# Altium integrated library Analog Devices Temperature Sensors.IntLib: 271 symbols (part 6 of 14)
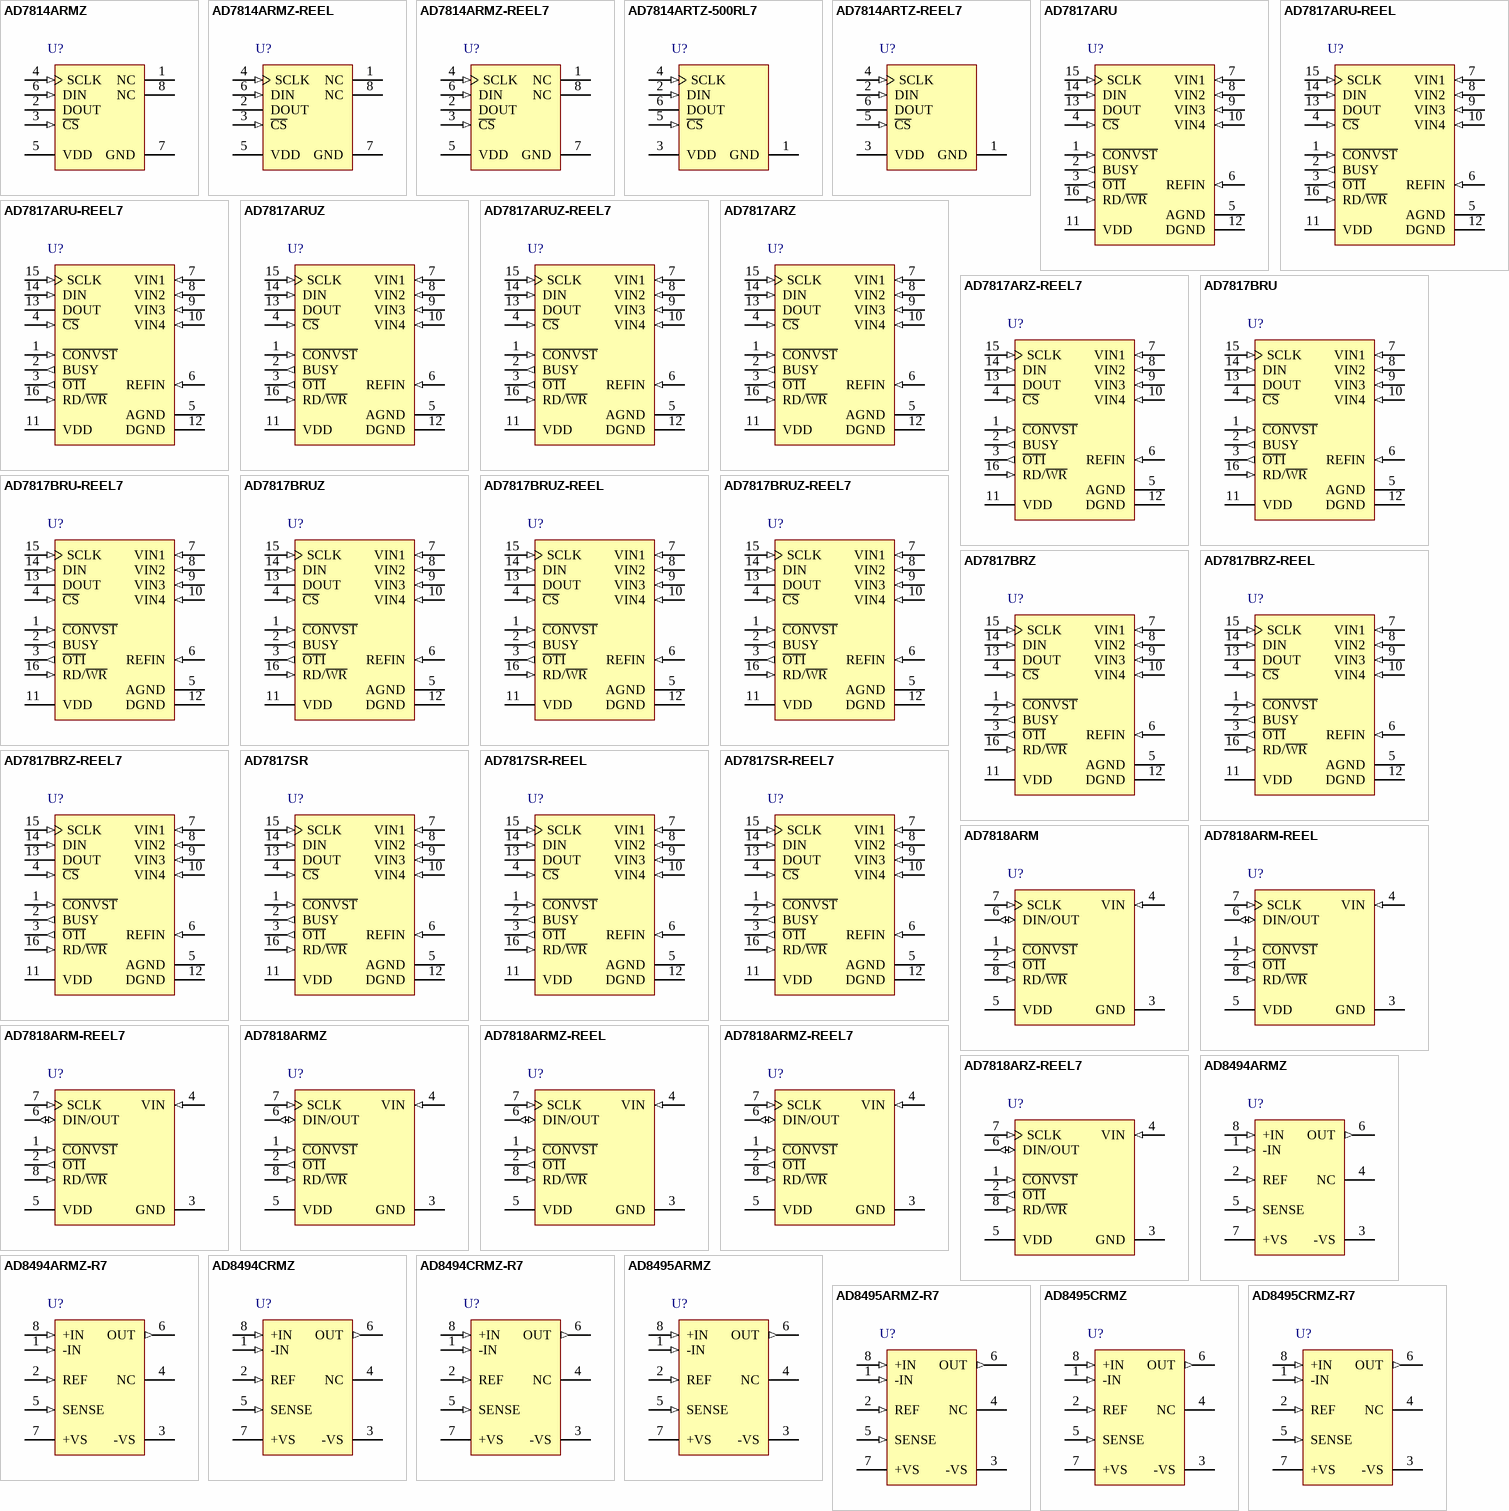
[diagram p12: symbols AD7814ARMZ to AD8495CRMZ-R7]

## AD7817BRU-REEL7
designator U?
Dual, Low Power CMOS, Analog Front End with DSP Microcomputer, 2.7 to 5.5 V Supply, Industrial, 16-pin SOP (RU-16), Reel; Manufacturer: Analog Devices; PartNumber: AD7817BRU-REEL7; #_ADC_channels: 4; DatasheetVersion: Rev. D; PackageVersion: 11/2002; PackageReference: RU-16; PackageDescription: 16-Pin Thin Shrink Small Outline Package, Body 5 x 4.4 mm, Pitch 0.65 mm; Supplier 1: Digi-Key; Supplier Part Number 1: AD7817BRU-REEL7-ND; Supplier 2: Mouser; Supplier Part Number 2: 584-AD7817BRU-R7; Packing: Reel; Supply Voltage Range: 2.7 to 5.5 V; Mounting Technology: Surface Mount; Code_JEDEC: MO-153AB; ComponentLink1Description: Manufacturer URL; ComponentLink1URL: http://www.analog.com/en/index.html; ComponentLink2Description: Datasheet; ComponentLink2URL: http://www.analog.com/static/imported-files/data_sheets/AD7817_7818.pdf; ComponentLink3Description: Package Specification; ComponentLink3URL: http:/www.analog.com/static/imported-files/packages/36244347913743854010197452789RU16.pdf; ComponentLink4Description: Product URL; ComponentLink4URL: http://www.analog.com/en/mems-sensors/digital-temperature-sensors/ad7817/products/product.html
footprint ADI-RU-16_N (SOP, 16-Leads, Body 5x4.4mm, Pitch 0.65mm, IPC Medium Density)
footprint ADI-RU-16_L (SOP, 16-Leads, Body 5x4.4mm, Pitch 0.65mm, IPC High Density)
footprint ADI-RU-16_M (SOP, 16-Leads, Body 5x4.4mm, Pitch 0.65mm, IPC Low Density)
pins: 1 ~{CONVST} (in) "Logic Input Signal. The convert start signal. A 10-bit analog-to-digital conversion is initiated on the falling edge of this signal. The falling edge of this signal places track-and-hold in hold mode. Track-and-hold goes (See Datasheet)", 2 BUSY (out) "Logic Output. The busy signal is logic high during a temperature or voltage A/D conversion. The signal can be used to interrupt a microcontroller when a conversion has finished.", 3 ~{OTI} (out) "Logic Output. The overtemperature indicator (O\T\I\) is set logic low if the result of a conversion on Channel 0 (temperature sensor) is greater that an 8-bit word in the overtemperature register (OTR). The signal is reset (See Datasheet)", 4 ~{CS} (in) "Logic Input Signal. The chip select signal is used to enable the serial port of the AD7817. This is necessary if the AD7817 is sharing the serial bus with more than one device.", 5 AGND (power) "Analog Ground. Ground reference for track-and-hold comparator and capacitor DAC.", 6 REFIN (in) "Analog Input. An external 2.5 V reference can be connected to the AD7817 at this pin. To enable the on-chip reference, tie the REFIN pin to AGND. If an external reference is connected to the AD7817, the internal reference (See Datasheet)", 7 VIN1 (in) "Analog Input Channels. The AD7817 has four analog input channels. The input channels are single-ended with respect to AGND (analog ground). The input channels can convert voltage signals in the range 0 V to VREF. A channel (See Datasheet)", 8 VIN2 (in) "Analog Input Channels. The AD7817 has four analog input channels. The input channels are single-ended with respect to AGND (analog ground). The input channels can convert voltage signals in the range 0 V to VREF. A channel (See Datasheet)", 9 VIN3 (in) "Analog Input Channels. The AD7817 has four analog input channels. The input channels are single-ended with respect to AGND (analog ground). The input channels can convert voltage signals in the range 0 V to VREF. A channel (See Datasheet)", 10 VIN4 (in) "Analog Input Channels. The AD7817 has four analog input channels. The input channels are single-ended with respect to AGND (analog ground). The input channels can convert voltage signals in the range 0 V to VREF. A channel (See Datasheet)", 11 VDD (power) "Positive Supply Voltage, 2.7 V to 5.5 V.", 12 DGND (power) "Digital Ground. Ground reference for digital circuitry.", 13 DOUT (hiz) "Logic Output with a High Impedance State. Data is clocked out of the AD7817 serial port at this pin. This output goes into a high impedance state on the falling edge of RD/W\R\ or on the rising edge of the C\S\ signal, (See Datasheet)", 14 DIN (in) "Logic Input. Data is clocked into the AD7817 at this pin.", 15 SCLK (in) "Clock Input for the Serial Port. The serial clock is used to clock data into and out of the AD7817. Data is clocked out on the falling edge and clocked in on the rising edge.", 16 RD/~{WR} (in) "Logic Input Signal. The read/write signal is used to indicate to the AD7817 whether the data transfer operation is a read or a write. Set the RD/W\R\ logic high for a read operation and logic low for a write operation."

## AD7817BRUZ
designator U?
Dual, Low Power CMOS, Analog Front End with DSP Microcomputer, 2.7 to 5.5 V Supply, Industrial, 16-pin SOP (RU-16), Tube; Manufacturer: Analog Devices; PartNumber: AD7817BRUZ; #_ADC_channels: 4; DatasheetVersion: Rev. D; PackageVersion: 11/2002; PackageReference: RU-16; PackageDescription: 16-Pin Thin Shrink Small Outline Package, Body 5 x 4.4 mm, Pitch 0.65 mm; Supplier 1: Digi-Key; Supplier Part Number 1: AD7817BRUZ-ND; Supplier 2: Newark; Supplier Part Number 2: 59K5550; Supplier 3: Mouser; Supplier Part Number 3: 584-AD7817BRUZ; Packing: Tube; Supply Voltage Range: 2.7 to 5.5 V; Mounting Technology: Surface Mount; Code_JEDEC: MO-153AB; ComponentLink1Description: Manufacturer URL; ComponentLink1URL: http://www.analog.com/en/index.html; ComponentLink2Description: Datasheet; ComponentLink2URL: http://www.analog.com/static/imported-files/data_sheets/AD7817_7818.pdf; ComponentLink3Description: Package Specification; ComponentLink3URL: http:/www.analog.com/static/imported-files/packages/36244347913743854010197452789RU16.pdf; ComponentLink4Description: Product URL; ComponentLink4URL: http://www.analog.com/en/mems-sensors/digital-temperature-sensors/ad7817/products/product.html
footprint ADI-RU-16_N (SOP, 16-Leads, Body 5x4.4mm, Pitch 0.65mm, IPC Medium Density)
footprint ADI-RU-16_L (SOP, 16-Leads, Body 5x4.4mm, Pitch 0.65mm, IPC High Density)
footprint ADI-RU-16_M (SOP, 16-Leads, Body 5x4.4mm, Pitch 0.65mm, IPC Low Density)
pins: 1 ~{CONVST} (in) "Logic Input Signal. The convert start signal. A 10-bit analog-to-digital conversion is initiated on the falling edge of this signal. The falling edge of this signal places track-and-hold in hold mode. Track-and-hold goes (See Datasheet)", 2 BUSY (out) "Logic Output. The busy signal is logic high during a temperature or voltage A/D conversion. The signal can be used to interrupt a microcontroller when a conversion has finished.", 3 ~{OTI} (out) "Logic Output. The overtemperature indicator (O\T\I\) is set logic low if the result of a conversion on Channel 0 (temperature sensor) is greater that an 8-bit word in the overtemperature register (OTR). The signal is reset (See Datasheet)", 4 ~{CS} (in) "Logic Input Signal. The chip select signal is used to enable the serial port of the AD7817. This is necessary if the AD7817 is sharing the serial bus with more than one device.", 5 AGND (power) "Analog Ground. Ground reference for track-and-hold comparator and capacitor DAC.", 6 REFIN (in) "Analog Input. An external 2.5 V reference can be connected to the AD7817 at this pin. To enable the on-chip reference, tie the REFIN pin to AGND. If an external reference is connected to the AD7817, the internal reference (See Datasheet)", 7 VIN1 (in) "Analog Input Channels. The AD7817 has four analog input channels. The input channels are single-ended with respect to AGND (analog ground). The input channels can convert voltage signals in the range 0 V to VREF. A channel (See Datasheet)", 8 VIN2 (in) "Analog Input Channels. The AD7817 has four analog input channels. The input channels are single-ended with respect to AGND (analog ground). The input channels can convert voltage signals in the range 0 V to VREF. A channel (See Datasheet)", 9 VIN3 (in) "Analog Input Channels. The AD7817 has four analog input channels. The input channels are single-ended with respect to AGND (analog ground). The input channels can convert voltage signals in the range 0 V to VREF. A channel (See Datasheet)", 10 VIN4 (in) "Analog Input Channels. The AD7817 has four analog input channels. The input channels are single-ended with respect to AGND (analog ground). The input channels can convert voltage signals in the range 0 V to VREF. A channel (See Datasheet)", 11 VDD (power) "Positive Supply Voltage, 2.7 V to 5.5 V.", 12 DGND (power) "Digital Ground. Ground reference for digital circuitry.", 13 DOUT (hiz) "Logic Output with a High Impedance State. Data is clocked out of the AD7817 serial port at this pin. This output goes into a high impedance state on the falling edge of RD/W\R\ or on the rising edge of the C\S\ signal, (See Datasheet)", 14 DIN (in) "Logic Input. Data is clocked into the AD7817 at this pin.", 15 SCLK (in) "Clock Input for the Serial Port. The serial clock is used to clock data into and out of the AD7817. Data is clocked out on the falling edge and clocked in on the rising edge.", 16 RD/~{WR} (in) "Logic Input Signal. The read/write signal is used to indicate to the AD7817 whether the data transfer operation is a read or a write. Set the RD/W\R\ logic high for a read operation and logic low for a write operation."

## AD7817BRUZ-REEL
designator U?
Dual, Low Power CMOS, Analog Front End with DSP Microcomputer, 2.7 to 5.5 V Supply, Industrial, 16-pin SOP (RU-16), Reel; Manufacturer: Analog Devices; PartNumber: AD7817BRUZ-REEL; #_ADC_channels: 4; DatasheetVersion: Rev. D; PackageVersion: 11/2002; PackageReference: RU-16; PackageDescription: 16-Pin Thin Shrink Small Outline Package, Body 5 x 4.4 mm, Pitch 0.65 mm; Supplier 1: Digi-Key; Supplier Part Number 1: AD7817BRUZ-REEL-ND; Supplier 2: Mouser; Supplier Part Number 2: 584-AD7817BRUZ-R; Packing: Reel; Supply Voltage Range: 2.7 to 5.5 V; Mounting Technology: Surface Mount; Code_JEDEC: MO-153AB; ComponentLink1Description: Manufacturer URL; ComponentLink1URL: http://www.analog.com/en/index.html; ComponentLink2Description: Datasheet; ComponentLink2URL: http://www.analog.com/static/imported-files/data_sheets/AD7817_7818.pdf; ComponentLink3Description: Package Specification; ComponentLink3URL: http:/www.analog.com/static/imported-files/packages/36244347913743854010197452789RU16.pdf; ComponentLink4Description: Product URL; ComponentLink4URL: http://www.analog.com/en/mems-sensors/digital-temperature-sensors/ad7817/products/product.html
footprint ADI-RU-16_N (SOP, 16-Leads, Body 5x4.4mm, Pitch 0.65mm, IPC Medium Density)
footprint ADI-RU-16_L (SOP, 16-Leads, Body 5x4.4mm, Pitch 0.65mm, IPC High Density)
footprint ADI-RU-16_M (SOP, 16-Leads, Body 5x4.4mm, Pitch 0.65mm, IPC Low Density)
pins: 1 ~{CONVST} (in) "Logic Input Signal. The convert start signal. A 10-bit analog-to-digital conversion is initiated on the falling edge of this signal. The falling edge of this signal places track-and-hold in hold mode. Track-and-hold goes (See Datasheet)", 2 BUSY (out) "Logic Output. The busy signal is logic high during a temperature or voltage A/D conversion. The signal can be used to interrupt a microcontroller when a conversion has finished.", 3 ~{OTI} (out) "Logic Output. The overtemperature indicator (O\T\I\) is set logic low if the result of a conversion on Channel 0 (temperature sensor) is greater that an 8-bit word in the overtemperature register (OTR). The signal is reset (See Datasheet)", 4 ~{CS} (in) "Logic Input Signal. The chip select signal is used to enable the serial port of the AD7817. This is necessary if the AD7817 is sharing the serial bus with more than one device.", 5 AGND (power) "Analog Ground. Ground reference for track-and-hold comparator and capacitor DAC.", 6 REFIN (in) "Analog Input. An external 2.5 V reference can be connected to the AD7817 at this pin. To enable the on-chip reference, tie the REFIN pin to AGND. If an external reference is connected to the AD7817, the internal reference (See Datasheet)", 7 VIN1 (in) "Analog Input Channels. The AD7817 has four analog input channels. The input channels are single-ended with respect to AGND (analog ground). The input channels can convert voltage signals in the range 0 V to VREF. A channel (See Datasheet)", 8 VIN2 (in) "Analog Input Channels. The AD7817 has four analog input channels. The input channels are single-ended with respect to AGND (analog ground). The input channels can convert voltage signals in the range 0 V to VREF. A channel (See Datasheet)", 9 VIN3 (in) "Analog Input Channels. The AD7817 has four analog input channels. The input channels are single-ended with respect to AGND (analog ground). The input channels can convert voltage signals in the range 0 V to VREF. A channel (See Datasheet)", 10 VIN4 (in) "Analog Input Channels. The AD7817 has four analog input channels. The input channels are single-ended with respect to AGND (analog ground). The input channels can convert voltage signals in the range 0 V to VREF. A channel (See Datasheet)", 11 VDD (power) "Positive Supply Voltage, 2.7 V to 5.5 V.", 12 DGND (power) "Digital Ground. Ground reference for digital circuitry.", 13 DOUT (hiz) "Logic Output with a High Impedance State. Data is clocked out of the AD7817 serial port at this pin. This output goes into a high impedance state on the falling edge of RD/W\R\ or on the rising edge of the C\S\ signal, (See Datasheet)", 14 DIN (in) "Logic Input. Data is clocked into the AD7817 at this pin.", 15 SCLK (in) "Clock Input for the Serial Port. The serial clock is used to clock data into and out of the AD7817. Data is clocked out on the falling edge and clocked in on the rising edge.", 16 RD/~{WR} (in) "Logic Input Signal. The read/write signal is used to indicate to the AD7817 whether the data transfer operation is a read or a write. Set the RD/W\R\ logic high for a read operation and logic low for a write operation."

## AD7817BRUZ-REEL7
designator U?
Dual, Low Power CMOS, Analog Front End with DSP Microcomputer, 2.7 to 5.5 V Supply, Industrial, 16-pin SOP (RU-16), Reel; Manufacturer: Analog Devices; PartNumber: AD7817BRUZ-REEL7; #_ADC_channels: 4; DatasheetVersion: Rev. D; PackageVersion: 11/2002; PackageReference: RU-16; PackageDescription: 16-Pin Thin Shrink Small Outline Package, Body 5 x 4.4 mm, Pitch 0.65 mm; Supplier 1: Digi-Key; Supplier Part Number 1: AD7817BRUZ-REEL7-ND; Supplier 2: Mouser; Supplier Part Number 2: 584-AD7817BRUZ-R7; Packing: Reel; Supply Voltage Range: 2.7 to 5.5 V; Mounting Technology: Surface Mount; Code_JEDEC: MO-153AB; ComponentLink1Description: Manufacturer URL; ComponentLink1URL: http://www.analog.com/en/index.html; ComponentLink2Description: Datasheet; ComponentLink2URL: http://www.analog.com/static/imported-files/data_sheets/AD7817_7818.pdf; ComponentLink3Description: Package Specification; ComponentLink3URL: http:/www.analog.com/static/imported-files/packages/36244347913743854010197452789RU16.pdf; ComponentLink4Description: Product URL; ComponentLink4URL: http://www.analog.com/en/mems-sensors/digital-temperature-sensors/ad7817/products/product.html
footprint ADI-RU-16_N (SOP, 16-Leads, Body 5x4.4mm, Pitch 0.65mm, IPC Medium Density)
footprint ADI-RU-16_L (SOP, 16-Leads, Body 5x4.4mm, Pitch 0.65mm, IPC High Density)
footprint ADI-RU-16_M (SOP, 16-Leads, Body 5x4.4mm, Pitch 0.65mm, IPC Low Density)
pins: 1 ~{CONVST} (in) "Logic Input Signal. The convert start signal. A 10-bit analog-to-digital conversion is initiated on the falling edge of this signal. The falling edge of this signal places track-and-hold in hold mode. Track-and-hold goes (See Datasheet)", 2 BUSY (out) "Logic Output. The busy signal is logic high during a temperature or voltage A/D conversion. The signal can be used to interrupt a microcontroller when a conversion has finished.", 3 ~{OTI} (out) "Logic Output. The overtemperature indicator (O\T\I\) is set logic low if the result of a conversion on Channel 0 (temperature sensor) is greater that an 8-bit word in the overtemperature register (OTR). The signal is reset (See Datasheet)", 4 ~{CS} (in) "Logic Input Signal. The chip select signal is used to enable the serial port of the AD7817. This is necessary if the AD7817 is sharing the serial bus with more than one device.", 5 AGND (power) "Analog Ground. Ground reference for track-and-hold comparator and capacitor DAC.", 6 REFIN (in) "Analog Input. An external 2.5 V reference can be connected to the AD7817 at this pin. To enable the on-chip reference, tie the REFIN pin to AGND. If an external reference is connected to the AD7817, the internal reference (See Datasheet)", 7 VIN1 (in) "Analog Input Channels. The AD7817 has four analog input channels. The input channels are single-ended with respect to AGND (analog ground). The input channels can convert voltage signals in the range 0 V to VREF. A channel (See Datasheet)", 8 VIN2 (in) "Analog Input Channels. The AD7817 has four analog input channels. The input channels are single-ended with respect to AGND (analog ground). The input channels can convert voltage signals in the range 0 V to VREF. A channel (See Datasheet)", 9 VIN3 (in) "Analog Input Channels. The AD7817 has four analog input channels. The input channels are single-ended with respect to AGND (analog ground). The input channels can convert voltage signals in the range 0 V to VREF. A channel (See Datasheet)", 10 VIN4 (in) "Analog Input Channels. The AD7817 has four analog input channels. The input channels are single-ended with respect to AGND (analog ground). The input channels can convert voltage signals in the range 0 V to VREF. A channel (See Datasheet)", 11 VDD (power) "Positive Supply Voltage, 2.7 V to 5.5 V.", 12 DGND (power) "Digital Ground. Ground reference for digital circuitry.", 13 DOUT (hiz) "Logic Output with a High Impedance State. Data is clocked out of the AD7817 serial port at this pin. This output goes into a high impedance state on the falling edge of RD/W\R\ or on the rising edge of the C\S\ signal, (See Datasheet)", 14 DIN (in) "Logic Input. Data is clocked into the AD7817 at this pin.", 15 SCLK (in) "Clock Input for the Serial Port. The serial clock is used to clock data into and out of the AD7817. Data is clocked out on the falling edge and clocked in on the rising edge.", 16 RD/~{WR} (in) "Logic Input Signal. The read/write signal is used to indicate to the AD7817 whether the data transfer operation is a read or a write. Set the RD/W\R\ logic high for a read operation and logic low for a write operation."

## AD7817BRZ
designator U?
Dual, Low Power CMOS, Analog Front End with DSP Microcomputer, 2.7 to 5.5 V Supply, Industrial, 16-pin SOIC (R-16), Tube; Manufacturer: Analog Devices; PartNumber: AD7817BRZ; #_ADC_channels: 4; DatasheetVersion: Rev. D; PackageVersion: 060606-A, 06/2006; PackageReference: R-16; PackageDescription: 16-Pin Standard Small Outline Package, Body 9.9 x 3.9 mm, Pitch 1.27 mm; Supplier 1: Digi-Key; Supplier Part Number 1: AD7817BRZ-ND; Supplier 2: Newark; Supplier Part Number 2: 59K5553; Supplier 3: Mouser; Supplier Part Number 3: 584-AD7817BRZ; Packing: Tube; Supply Voltage Range: 2.7 to 5.5 V; Mounting Technology: Surface Mount; Code_JEDEC: MS-012-AC; ComponentLink1Description: Manufacturer URL; ComponentLink1URL: http://www.analog.com/en/index.html; ComponentLink2Description: Datasheet; ComponentLink2URL: http://www.analog.com/static/imported-files/data_sheets/AD7817_7818.pdf; ComponentLink3Description: Package Specification; ComponentLink3URL: http://www.analog.com/static/imported-files/packages/PKG_PDF/SOIC_Narrow%20(R)/R_16.pdf; ComponentLink4Description: Product URL; ComponentLink4URL: http://www.analog.com/en/mems-sensors/digital-temperature-sensors/ad7817/products/product.html
footprint ADI-R-16_N (SOIC, 16-Leads, Body 9.9x3.9mm, Pitch 1.27mm, IPC Medium Density)
footprint ADI-R-16_L (SOIC, 16-Leads, Body 9.9x3.9mm, Pitch 1.27mm, IPC High Density)
footprint ADI-R-16_M (SOIC, 16-Leads, Body 9.9x3.9mm, Pitch 1.27mm, IPC Low Density)
pins: 1 ~{CONVST} (in) "Logic Input Signal. The convert start signal. A 10-bit analog-to-digital conversion is initiated on the falling edge of this signal. The falling edge of this signal places track-and-hold in hold mode. Track-and-hold goes (See Datasheet)", 2 BUSY (out) "Logic Output. The busy signal is logic high during a temperature or voltage A/D conversion. The signal can be used to interrupt a microcontroller when a conversion has finished.", 3 ~{OTI} (out) "Logic Output. The overtemperature indicator (O\T\I\) is set logic low if the result of a conversion on Channel 0 (temperature sensor) is greater that an 8-bit word in the overtemperature register (OTR). The signal is reset (See Datasheet)", 4 ~{CS} (in) "Logic Input Signal. The chip select signal is used to enable the serial port of the AD7817. This is necessary if the AD7817 is sharing the serial bus with more than one device.", 5 AGND (power) "Analog Ground. Ground reference for track-and-hold comparator and capacitor DAC.", 6 REFIN (in) "Analog Input. An external 2.5 V reference can be connected to the AD7817 at this pin. To enable the on-chip reference, tie the REFIN pin to AGND. If an external reference is connected to the AD7817, the internal reference (See Datasheet)", 7 VIN1 (in) "Analog Input Channels. The AD7817 has four analog input channels. The input channels are single-ended with respect to AGND (analog ground). The input channels can convert voltage signals in the range 0 V to VREF. A channel (See Datasheet)", 8 VIN2 (in) "Analog Input Channels. The AD7817 has four analog input channels. The input channels are single-ended with respect to AGND (analog ground). The input channels can convert voltage signals in the range 0 V to VREF. A channel (See Datasheet)", 9 VIN3 (in) "Analog Input Channels. The AD7817 has four analog input channels. The input channels are single-ended with respect to AGND (analog ground). The input channels can convert voltage signals in the range 0 V to VREF. A channel (See Datasheet)", 10 VIN4 (in) "Analog Input Channels. The AD7817 has four analog input channels. The input channels are single-ended with respect to AGND (analog ground). The input channels can convert voltage signals in the range 0 V to VREF. A channel (See Datasheet)", 11 VDD (power) "Positive Supply Voltage, 2.7 V to 5.5 V.", 12 DGND (power) "Digital Ground. Ground reference for digital circuitry.", 13 DOUT (hiz) "Logic Output with a High Impedance State. Data is clocked out of the AD7817 serial port at this pin. This output goes into a high impedance state on the falling edge of RD/W\R\ or on the rising edge of the C\S\ signal, (See Datasheet)", 14 DIN (in) "Logic Input. Data is clocked into the AD7817 at this pin.", 15 SCLK (in) "Clock Input for the Serial Port. The serial clock is used to clock data into and out of the AD7817. Data is clocked out on the falling edge and clocked in on the rising edge.", 16 RD/~{WR} (in) "Logic Input Signal. The read/write signal is used to indicate to the AD7817 whether the data transfer operation is a read or a write. Set the RD/W\R\ logic high for a read operation and logic low for a write operation."

## AD7817BRZ-REEL
designator U?
Dual, Low Power CMOS, Analog Front End with DSP Microcomputer, 2.7 to 5.5 V Supply, Industrial, 16-pin SOIC (R-16), Reel; Manufacturer: Analog Devices; PartNumber: AD7817BRZ-REEL; #_ADC_channels: 4; DatasheetVersion: Rev. D; PackageVersion: 060606-A, 06/2006; PackageReference: R-16; PackageDescription: 16-Pin Standard Small Outline Package, Body 9.9 x 3.9 mm, Pitch 1.27 mm; Supplier 1: Digi-Key; Supplier Part Number 1: AD7817BRZ-REEL-ND; Supplier 2: Mouser; Supplier Part Number 2: 584-AD7817BRZ-R; Packing: Reel; Supply Voltage Range: 2.7 to 5.5 V; Mounting Technology: Surface Mount; Code_JEDEC: MS-012-AC; ComponentLink1Description: Manufacturer URL; ComponentLink1URL: http://www.analog.com/en/index.html; ComponentLink2Description: Datasheet; ComponentLink2URL: http://www.analog.com/static/imported-files/data_sheets/AD7817_7818.pdf; ComponentLink3Description: Package Specification; ComponentLink3URL: http://www.analog.com/static/imported-files/packages/PKG_PDF/SOIC_Narrow%20(R)/R_16.pdf; ComponentLink4Description: Product URL; ComponentLink4URL: http://www.analog.com/en/mems-sensors/digital-temperature-sensors/ad7817/products/product.html
footprint ADI-R-16_N (SOIC, 16-Leads, Body 9.9x3.9mm, Pitch 1.27mm, IPC Medium Density)
footprint ADI-R-16_L (SOIC, 16-Leads, Body 9.9x3.9mm, Pitch 1.27mm, IPC High Density)
footprint ADI-R-16_M (SOIC, 16-Leads, Body 9.9x3.9mm, Pitch 1.27mm, IPC Low Density)
pins: 1 ~{CONVST} (in) "Logic Input Signal. The convert start signal. A 10-bit analog-to-digital conversion is initiated on the falling edge of this signal. The falling edge of this signal places track-and-hold in hold mode. Track-and-hold goes (See Datasheet)", 2 BUSY (out) "Logic Output. The busy signal is logic high during a temperature or voltage A/D conversion. The signal can be used to interrupt a microcontroller when a conversion has finished.", 3 ~{OTI} (out) "Logic Output. The overtemperature indicator (O\T\I\) is set logic low if the result of a conversion on Channel 0 (temperature sensor) is greater that an 8-bit word in the overtemperature register (OTR). The signal is reset (See Datasheet)", 4 ~{CS} (in) "Logic Input Signal. The chip select signal is used to enable the serial port of the AD7817. This is necessary if the AD7817 is sharing the serial bus with more than one device.", 5 AGND (power) "Analog Ground. Ground reference for track-and-hold comparator and capacitor DAC.", 6 REFIN (in) "Analog Input. An external 2.5 V reference can be connected to the AD7817 at this pin. To enable the on-chip reference, tie the REFIN pin to AGND. If an external reference is connected to the AD7817, the internal reference (See Datasheet)", 7 VIN1 (in) "Analog Input Channels. The AD7817 has four analog input channels. The input channels are single-ended with respect to AGND (analog ground). The input channels can convert voltage signals in the range 0 V to VREF. A channel (See Datasheet)", 8 VIN2 (in) "Analog Input Channels. The AD7817 has four analog input channels. The input channels are single-ended with respect to AGND (analog ground). The input channels can convert voltage signals in the range 0 V to VREF. A channel (See Datasheet)", 9 VIN3 (in) "Analog Input Channels. The AD7817 has four analog input channels. The input channels are single-ended with respect to AGND (analog ground). The input channels can convert voltage signals in the range 0 V to VREF. A channel (See Datasheet)", 10 VIN4 (in) "Analog Input Channels. The AD7817 has four analog input channels. The input channels are single-ended with respect to AGND (analog ground). The input channels can convert voltage signals in the range 0 V to VREF. A channel (See Datasheet)", 11 VDD (power) "Positive Supply Voltage, 2.7 V to 5.5 V.", 12 DGND (power) "Digital Ground. Ground reference for digital circuitry.", 13 DOUT (hiz) "Logic Output with a High Impedance State. Data is clocked out of the AD7817 serial port at this pin. This output goes into a high impedance state on the falling edge of RD/W\R\ or on the rising edge of the C\S\ signal, (See Datasheet)", 14 DIN (in) "Logic Input. Data is clocked into the AD7817 at this pin.", 15 SCLK (in) "Clock Input for the Serial Port. The serial clock is used to clock data into and out of the AD7817. Data is clocked out on the falling edge and clocked in on the rising edge.", 16 RD/~{WR} (in) "Logic Input Signal. The read/write signal is used to indicate to the AD7817 whether the data transfer operation is a read or a write. Set the RD/W\R\ logic high for a read operation and logic low for a write operation."

## AD7817BRZ-REEL7
designator U?
Dual, Low Power CMOS, Analog Front End with DSP Microcomputer, 2.7 to 5.5 V Supply, Industrial, 16-pin SOIC (R-16), Reel; Manufacturer: Analog Devices; PartNumber: AD7817BRZ-REEL7; #_ADC_channels: 4; DatasheetVersion: Rev. D; PackageVersion: 060606-A, 06/2006; PackageReference: R-16; PackageDescription: 16-Pin Standard Small Outline Package, Body 9.9 x 3.9 mm, Pitch 1.27 mm; Supplier 1: Digi-Key; Supplier Part Number 1: AD7817BRZ-REEL7-ND; Supplier 2: Mouser; Supplier Part Number 2: 584-AD7817BRZ-R7; Packing: Reel; Supply Voltage Range: 2.7 to 5.5 V; Mounting Technology: Surface Mount; Code_JEDEC: MS-012-AC; ComponentLink1Description: Manufacturer URL; ComponentLink1URL: http://www.analog.com/en/index.html; ComponentLink2Description: Datasheet; ComponentLink2URL: http://www.analog.com/static/imported-files/data_sheets/AD7817_7818.pdf; ComponentLink3Description: Package Specification; ComponentLink3URL: http://www.analog.com/static/imported-files/packages/PKG_PDF/SOIC_Narrow%20(R)/R_16.pdf; ComponentLink4Description: Product URL; ComponentLink4URL: http://www.analog.com/en/mems-sensors/digital-temperature-sensors/ad7817/products/product.html
footprint ADI-R-16_N (SOIC, 16-Leads, Body 9.9x3.9mm, Pitch 1.27mm, IPC Medium Density)
footprint ADI-R-16_L (SOIC, 16-Leads, Body 9.9x3.9mm, Pitch 1.27mm, IPC High Density)
footprint ADI-R-16_M (SOIC, 16-Leads, Body 9.9x3.9mm, Pitch 1.27mm, IPC Low Density)
pins: 1 ~{CONVST} (in) "Logic Input Signal. The convert start signal. A 10-bit analog-to-digital conversion is initiated on the falling edge of this signal. The falling edge of this signal places track-and-hold in hold mode. Track-and-hold goes (See Datasheet)", 2 BUSY (out) "Logic Output. The busy signal is logic high during a temperature or voltage A/D conversion. The signal can be used to interrupt a microcontroller when a conversion has finished.", 3 ~{OTI} (out) "Logic Output. The overtemperature indicator (O\T\I\) is set logic low if the result of a conversion on Channel 0 (temperature sensor) is greater that an 8-bit word in the overtemperature register (OTR). The signal is reset (See Datasheet)", 4 ~{CS} (in) "Logic Input Signal. The chip select signal is used to enable the serial port of the AD7817. This is necessary if the AD7817 is sharing the serial bus with more than one device.", 5 AGND (power) "Analog Ground. Ground reference for track-and-hold comparator and capacitor DAC.", 6 REFIN (in) "Analog Input. An external 2.5 V reference can be connected to the AD7817 at this pin. To enable the on-chip reference, tie the REFIN pin to AGND. If an external reference is connected to the AD7817, the internal reference (See Datasheet)", 7 VIN1 (in) "Analog Input Channels. The AD7817 has four analog input channels. The input channels are single-ended with respect to AGND (analog ground). The input channels can convert voltage signals in the range 0 V to VREF. A channel (See Datasheet)", 8 VIN2 (in) "Analog Input Channels. The AD7817 has four analog input channels. The input channels are single-ended with respect to AGND (analog ground). The input channels can convert voltage signals in the range 0 V to VREF. A channel (See Datasheet)", 9 VIN3 (in) "Analog Input Channels. The AD7817 has four analog input channels. The input channels are single-ended with respect to AGND (analog ground). The input channels can convert voltage signals in the range 0 V to VREF. A channel (See Datasheet)", 10 VIN4 (in) "Analog Input Channels. The AD7817 has four analog input channels. The input channels are single-ended with respect to AGND (analog ground). The input channels can convert voltage signals in the range 0 V to VREF. A channel (See Datasheet)", 11 VDD (power) "Positive Supply Voltage, 2.7 V to 5.5 V.", 12 DGND (power) "Digital Ground. Ground reference for digital circuitry.", 13 DOUT (hiz) "Logic Output with a High Impedance State. Data is clocked out of the AD7817 serial port at this pin. This output goes into a high impedance state on the falling edge of RD/W\R\ or on the rising edge of the C\S\ signal, (See Datasheet)", 14 DIN (in) "Logic Input. Data is clocked into the AD7817 at this pin.", 15 SCLK (in) "Clock Input for the Serial Port. The serial clock is used to clock data into and out of the AD7817. Data is clocked out on the falling edge and clocked in on the rising edge.", 16 RD/~{WR} (in) "Logic Input Signal. The read/write signal is used to indicate to the AD7817 whether the data transfer operation is a read or a write. Set the RD/W\R\ logic high for a read operation and logic low for a write operation."

## AD7817SR
designator U?
Dual, Low Power CMOS, Analog Front End with DSP Microcomputer, 2.7 to 5.5 V Supply, Industrial, 16-pin SOIC (R-16), Tube; Manufacturer: Analog Devices; PartNumber: AD7817SR; #_ADC_channels: 4; DatasheetVersion: Rev. D; PackageVersion: 060606-A, 06/2006; PackageReference: R-16; PackageDescription: 16-Pin Standard Small Outline Package, Body 9.9 x 3.9 mm, Pitch 1.27 mm; Supplier 1: Digi-Key; Supplier Part Number 1: AD7817SR-ND; Supplier 2: Newark; Supplier Part Number 2: 98B7307; Supplier 3: Mouser; Supplier Part Number 3: 584-AD7817SR; Packing: Tube; Supply Voltage Range: 2.7 to 5.5 V; Mounting Technology: Surface Mount; Code_JEDEC: MS-012-AC; ComponentLink1Description: Manufacturer URL; ComponentLink1URL: http://www.analog.com/en/index.html; ComponentLink2Description: Datasheet; ComponentLink2URL: http://www.analog.com/static/imported-files/data_sheets/AD7817_7818.pdf; ComponentLink3Description: Package Specification; ComponentLink3URL: http://www.analog.com/static/imported-files/packages/PKG_PDF/SOIC_Narrow%20(R)/R_16.pdf; ComponentLink4Description: Product URL; ComponentLink4URL: http://www.analog.com/en/mems-sensors/digital-temperature-sensors/ad7817/products/product.html
footprint ADI-R-16_N (SOIC, 16-Leads, Body 9.9x3.9mm, Pitch 1.27mm, IPC Medium Density)
footprint ADI-R-16_L (SOIC, 16-Leads, Body 9.9x3.9mm, Pitch 1.27mm, IPC High Density)
footprint ADI-R-16_M (SOIC, 16-Leads, Body 9.9x3.9mm, Pitch 1.27mm, IPC Low Density)
pins: 1 ~{CONVST} (in) "Logic Input Signal. The convert start signal. A 10-bit analog-to-digital conversion is initiated on the falling edge of this signal. The falling edge of this signal places track-and-hold in hold mode. Track-and-hold goes (See Datasheet)", 2 BUSY (out) "Logic Output. The busy signal is logic high during a temperature or voltage A/D conversion. The signal can be used to interrupt a microcontroller when a conversion has finished.", 3 ~{OTI} (out) "Logic Output. The overtemperature indicator (O\T\I\) is set logic low if the result of a conversion on Channel 0 (temperature sensor) is greater that an 8-bit word in the overtemperature register (OTR). The signal is reset (See Datasheet)", 4 ~{CS} (in) "Logic Input Signal. The chip select signal is used to enable the serial port of the AD7817. This is necessary if the AD7817 is sharing the serial bus with more than one device.", 5 AGND (power) "Analog Ground. Ground reference for track-and-hold comparator and capacitor DAC.", 6 REFIN (in) "Analog Input. An external 2.5 V reference can be connected to the AD7817 at this pin. To enable the on-chip reference, tie the REFIN pin to AGND. If an external reference is connected to the AD7817, the internal reference (See Datasheet)", 7 VIN1 (in) "Analog Input Channels. The AD7817 has four analog input channels. The input channels are single-ended with respect to AGND (analog ground). The input channels can convert voltage signals in the range 0 V to VREF. A channel (See Datasheet)", 8 VIN2 (in) "Analog Input Channels. The AD7817 has four analog input channels. The input channels are single-ended with respect to AGND (analog ground). The input channels can convert voltage signals in the range 0 V to VREF. A channel (See Datasheet)", 9 VIN3 (in) "Analog Input Channels. The AD7817 has four analog input channels. The input channels are single-ended with respect to AGND (analog ground). The input channels can convert voltage signals in the range 0 V to VREF. A channel (See Datasheet)", 10 VIN4 (in) "Analog Input Channels. The AD7817 has four analog input channels. The input channels are single-ended with respect to AGND (analog ground). The input channels can convert voltage signals in the range 0 V to VREF. A channel (See Datasheet)", 11 VDD (power) "Positive Supply Voltage, 2.7 V to 5.5 V.", 12 DGND (power) "Digital Ground. Ground reference for digital circuitry.", 13 DOUT (hiz) "Logic Output with a High Impedance State. Data is clocked out of the AD7817 serial port at this pin. This output goes into a high impedance state on the falling edge of RD/W\R\ or on the rising edge of the C\S\ signal, (See Datasheet)", 14 DIN (in) "Logic Input. Data is clocked into the AD7817 at this pin.", 15 SCLK (in) "Clock Input for the Serial Port. The serial clock is used to clock data into and out of the AD7817. Data is clocked out on the falling edge and clocked in on the rising edge.", 16 RD/~{WR} (in) "Logic Input Signal. The read/write signal is used to indicate to the AD7817 whether the data transfer operation is a read or a write. Set the RD/W\R\ logic high for a read operation and logic low for a write operation."

## AD7817SR-REEL
designator U?
Dual, Low Power CMOS, Analog Front End with DSP Microcomputer, 2.7 to 5.5 V Supply, Industrial, 16-pin SOIC (R-16), Reel; Manufacturer: Analog Devices; PartNumber: AD7817SR-REEL; #_ADC_channels: 4; DatasheetVersion: Rev. D; PackageVersion: 060606-A, 06/2006; PackageReference: R-16; PackageDescription: 16-Pin Standard Small Outline Package, Body 9.9 x 3.9 mm, Pitch 1.27 mm; Supplier 1: Digi-Key; Supplier Part Number 1: AD7817SR-REEL-ND; Supplier 2: Mouser; Supplier Part Number 2: 584-AD7817SR-R; Packing: Reel; Supply Voltage Range: 2.7 to 5.5 V; Mounting Technology: Surface Mount; Code_JEDEC: MS-012-AC; ComponentLink1Description: Manufacturer URL; ComponentLink1URL: http://www.analog.com/en/index.html; ComponentLink2Description: Datasheet; ComponentLink2URL: http://www.analog.com/static/imported-files/data_sheets/AD7817_7818.pdf; ComponentLink3Description: Package Specification; ComponentLink3URL: http://www.analog.com/static/imported-files/packages/PKG_PDF/SOIC_Narrow%20(R)/R_16.pdf; ComponentLink4Description: Product URL; ComponentLink4URL: http://www.analog.com/en/mems-sensors/digital-temperature-sensors/ad7817/products/product.html
footprint ADI-R-16_N (SOIC, 16-Leads, Body 9.9x3.9mm, Pitch 1.27mm, IPC Medium Density)
footprint ADI-R-16_L (SOIC, 16-Leads, Body 9.9x3.9mm, Pitch 1.27mm, IPC High Density)
footprint ADI-R-16_M (SOIC, 16-Leads, Body 9.9x3.9mm, Pitch 1.27mm, IPC Low Density)
pins: 1 ~{CONVST} (in) "Logic Input Signal. The convert start signal. A 10-bit analog-to-digital conversion is initiated on the falling edge of this signal. The falling edge of this signal places track-and-hold in hold mode. Track-and-hold goes (See Datasheet)", 2 BUSY (out) "Logic Output. The busy signal is logic high during a temperature or voltage A/D conversion. The signal can be used to interrupt a microcontroller when a conversion has finished.", 3 ~{OTI} (out) "Logic Output. The overtemperature indicator (O\T\I\) is set logic low if the result of a conversion on Channel 0 (temperature sensor) is greater that an 8-bit word in the overtemperature register (OTR). The signal is reset (See Datasheet)", 4 ~{CS} (in) "Logic Input Signal. The chip select signal is used to enable the serial port of the AD7817. This is necessary if the AD7817 is sharing the serial bus with more than one device.", 5 AGND (power) "Analog Ground. Ground reference for track-and-hold comparator and capacitor DAC.", 6 REFIN (in) "Analog Input. An external 2.5 V reference can be connected to the AD7817 at this pin. To enable the on-chip reference, tie the REFIN pin to AGND. If an external reference is connected to the AD7817, the internal reference (See Datasheet)", 7 VIN1 (in) "Analog Input Channels. The AD7817 has four analog input channels. The input channels are single-ended with respect to AGND (analog ground). The input channels can convert voltage signals in the range 0 V to VREF. A channel (See Datasheet)", 8 VIN2 (in) "Analog Input Channels. The AD7817 has four analog input channels. The input channels are single-ended with respect to AGND (analog ground). The input channels can convert voltage signals in the range 0 V to VREF. A channel (See Datasheet)", 9 VIN3 (in) "Analog Input Channels. The AD7817 has four analog input channels. The input channels are single-ended with respect to AGND (analog ground). The input channels can convert voltage signals in the range 0 V to VREF. A channel (See Datasheet)", 10 VIN4 (in) "Analog Input Channels. The AD7817 has four analog input channels. The input channels are single-ended with respect to AGND (analog ground). The input channels can convert voltage signals in the range 0 V to VREF. A channel (See Datasheet)", 11 VDD (power) "Positive Supply Voltage, 2.7 V to 5.5 V.", 12 DGND (power) "Digital Ground. Ground reference for digital circuitry.", 13 DOUT (hiz) "Logic Output with a High Impedance State. Data is clocked out of the AD7817 serial port at this pin. This output goes into a high impedance state on the falling edge of RD/W\R\ or on the rising edge of the C\S\ signal, (See Datasheet)", 14 DIN (in) "Logic Input. Data is clocked into the AD7817 at this pin.", 15 SCLK (in) "Clock Input for the Serial Port. The serial clock is used to clock data into and out of the AD7817. Data is clocked out on the falling edge and clocked in on the rising edge.", 16 RD/~{WR} (in) "Logic Input Signal. The read/write signal is used to indicate to the AD7817 whether the data transfer operation is a read or a write. Set the RD/W\R\ logic high for a read operation and logic low for a write operation."

## AD7817SR-REEL7
designator U?
Dual, Low Power CMOS, Analog Front End with DSP Microcomputer, 2.7 to 5.5 V Supply, Industrial, 16-pin SOIC (R-16), Reel; Manufacturer: Analog Devices; PartNumber: AD7817SR-REEL7; #_ADC_channels: 4; DatasheetVersion: Rev. D; PackageVersion: 060606-A, 06/2006; PackageReference: R-16; PackageDescription: 16-Pin Standard Small Outline Package, Body 9.9 x 3.9 mm, Pitch 1.27 mm; Supplier 1: Digi-Key; Supplier Part Number 1: AD7817SR-REEL7-ND; Supplier 2: Mouser; Supplier Part Number 2: 584-AD7817SR-R7; Packing: Reel; Supply Voltage Range: 2.7 to 5.5 V; Mounting Technology: Surface Mount; Code_JEDEC: MS-012-AC; ComponentLink1Description: Manufacturer URL; ComponentLink1URL: http://www.analog.com/en/index.html; ComponentLink2Description: Datasheet; ComponentLink2URL: http://www.analog.com/static/imported-files/data_sheets/AD7817_7818.pdf; ComponentLink3Description: Package Specification; ComponentLink3URL: http://www.analog.com/static/imported-files/packages/PKG_PDF/SOIC_Narrow%20(R)/R_16.pdf; ComponentLink4Description: Product URL; ComponentLink4URL: http://www.analog.com/en/mems-sensors/digital-temperature-sensors/ad7817/products/product.html
footprint ADI-R-16_N (SOIC, 16-Leads, Body 9.9x3.9mm, Pitch 1.27mm, IPC Medium Density)
footprint ADI-R-16_L (SOIC, 16-Leads, Body 9.9x3.9mm, Pitch 1.27mm, IPC High Density)
footprint ADI-R-16_M (SOIC, 16-Leads, Body 9.9x3.9mm, Pitch 1.27mm, IPC Low Density)
pins: 1 ~{CONVST} (in) "Logic Input Signal. The convert start signal. A 10-bit analog-to-digital conversion is initiated on the falling edge of this signal. The falling edge of this signal places track-and-hold in hold mode. Track-and-hold goes (See Datasheet)", 2 BUSY (out) "Logic Output. The busy signal is logic high during a temperature or voltage A/D conversion. The signal can be used to interrupt a microcontroller when a conversion has finished.", 3 ~{OTI} (out) "Logic Output. The overtemperature indicator (O\T\I\) is set logic low if the result of a conversion on Channel 0 (temperature sensor) is greater that an 8-bit word in the overtemperature register (OTR). The signal is reset (See Datasheet)", 4 ~{CS} (in) "Logic Input Signal. The chip select signal is used to enable the serial port of the AD7817. This is necessary if the AD7817 is sharing the serial bus with more than one device.", 5 AGND (power) "Analog Ground. Ground reference for track-and-hold comparator and capacitor DAC.", 6 REFIN (in) "Analog Input. An external 2.5 V reference can be connected to the AD7817 at this pin. To enable the on-chip reference, tie the REFIN pin to AGND. If an external reference is connected to the AD7817, the internal reference (See Datasheet)", 7 VIN1 (in) "Analog Input Channels. The AD7817 has four analog input channels. The input channels are single-ended with respect to AGND (analog ground). The input channels can convert voltage signals in the range 0 V to VREF. A channel (See Datasheet)", 8 VIN2 (in) "Analog Input Channels. The AD7817 has four analog input channels. The input channels are single-ended with respect to AGND (analog ground). The input channels can convert voltage signals in the range 0 V to VREF. A channel (See Datasheet)", 9 VIN3 (in) "Analog Input Channels. The AD7817 has four analog input channels. The input channels are single-ended with respect to AGND (analog ground). The input channels can convert voltage signals in the range 0 V to VREF. A channel (See Datasheet)", 10 VIN4 (in) "Analog Input Channels. The AD7817 has four analog input channels. The input channels are single-ended with respect to AGND (analog ground). The input channels can convert voltage signals in the range 0 V to VREF. A channel (See Datasheet)", 11 VDD (power) "Positive Supply Voltage, 2.7 V to 5.5 V.", 12 DGND (power) "Digital Ground. Ground reference for digital circuitry.", 13 DOUT (hiz) "Logic Output with a High Impedance State. Data is clocked out of the AD7817 serial port at this pin. This output goes into a high impedance state on the falling edge of RD/W\R\ or on the rising edge of the C\S\ signal, (See Datasheet)", 14 DIN (in) "Logic Input. Data is clocked into the AD7817 at this pin.", 15 SCLK (in) "Clock Input for the Serial Port. The serial clock is used to clock data into and out of the AD7817. Data is clocked out on the falling edge and clocked in on the rising edge.", 16 RD/~{WR} (in) "Logic Input Signal. The read/write signal is used to indicate to the AD7817 whether the data transfer operation is a read or a write. Set the RD/W\R\ logic high for a read operation and logic low for a write operation."

## AD7818ARM
designator U?
Single-Channel Temperature Sensor, 10-Bit ADC, 2.7 to 5.5 V Supply, Industrial, 8-pin SOP (RM-8), Tube; Manufacturer: Analog Devices; PartNumber: AD7818ARM; #_ADC_channels: 1; DatasheetVersion: Rev. D; PackageVersion: 08/2005; PackageReference: RM-8; PackageDescription: 8-Pin Mini Small Outline Package, Body 3 x 3 mm, Pitch 0.65 mm; Supplier 1: Digi-Key; Supplier Part Number 1: AD7818ARM-ND; Supplier 2: Mouser; Supplier Part Number 2: 584-AD7818ARM; Packing: Tube; Supply Voltage Range: 2.7 to 5.5 V; Mounting Technology: Surface Mount; Code_JEDEC: MO-187-AA; ComponentLink1Description: Manufacturer URL; ComponentLink1URL: http://www.analog.com/en/index.html; ComponentLink2Description: Datasheet; ComponentLink2URL: http://www.analog.com/static/imported-files/data_sheets/AD7817_7818.pdf; ComponentLink3Description: Package Specification; ComponentLink3URL: http://www.analog.com/static/imported-files/packages/PKG_PDF/MSOP%28RM%29/RM_8.pdf; ComponentLink4Description: Product URL; ComponentLink4URL: http://www.analog.com/en/mems-sensors/digital-temperature-sensors/ad7818/products/product.html
footprint ADI-RM-8_N (SOP, 8-Leads, Body 3x3mm, Pitch 0.65mm, IPC Medium Density)
footprint ADI-RM-8_L (SOP, 8-Leads, Body 3x3mm, Pitch 0.65mm, IPC High Density)
footprint ADI-RM-8_M (SOP, 8-Leads, Body 3x3mm, Pitch 0.65mm, IPC Low Density)
pins: 1 ~{CONVST} (in) "Logic Input Signal. The convert start signal initiates a 10-bit analog-to-digital conversion on the falling edge of this signal. The falling edge of this signal places track-and-hold in hold mode. Track-and-hold goes into (See Datasheet)", 2 ~{OTI} (out) "Logic Output. The overtemperature indicator (O\T\I\) is set logic low if the result of a conversion on Channel 0 (temperature sensor) is greater that an 8-bit word in the overtemperature register (OTR). The signal is reset (See Datasheet)", 3 GND (power) "Analog and Digital Ground.", 4 VIN (in) "Analog Input Channel. The input channel is single-ended with respect to GND. The input channel can convert voltage signals in the range 0 V to 2.5 V. The input channel is selected by writing to the address register of the (See Datasheet)", 5 VDD (power) "Positive Supply Voltage, 2.7 V to 5.5 V.", 6 DIN/OUT (io) "Logic Input and Output. Serial data is clocked in and out of the AD7818 at this pin.", 7 SCLK (in) "Clock Input for the Serial Port. The serial clock is used to clock data into and out of the AD7818. Data is clocked out on the falling edge and clocked in on the rising edge.", 8 RD/~{WR} (in) "Logic Input. The read/write signal is used to indicate to the AD7818 whether the next data transfer operation is a read or a write. Set the RD/W\R\ logic high for a read operation and logic low for a write."